# Altium schematic symbol library CGA3E3X7R1H474K080AB.SchLib: 2 symbols
Pins are listed as number, name and electrical type; pins without a type are passive.

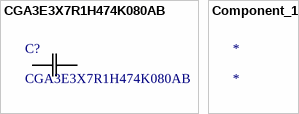
[diagram p0: symbols CGA3E3X7R1H474K080AB to Component_1]

## CGA3E3X7R1H474K080AB
designator C?
No Description Available; Manufacturer_Name: TDK; Copyright: Copyright (C) 2025 Ultra Librarian. All rights reserved.; Manufacturer_Part_Number: CGA3E3X7R1H474K080AB
footprint CAP_1608_TDK
pins: 1, 2

## Component_1
designator *